# EAGLE library part DW01-A (library custom_library)
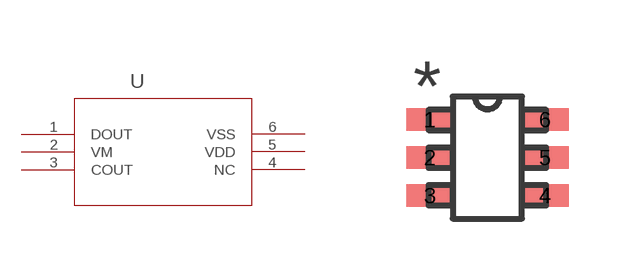
[diagram p5: symbol with the pads of SOT23-6_1P7X3P02-0P95_SFE-M; footprint SOT23-6_1P7X3P02-0P95_SFE-M]

Designator prefix U

## DW01-ASOT23-6 (COPYRIGHT: Copyright (C) 2025 Ultra Librarian. All rights reserved.; MANUFACTURER_PART_NUMBER: DW01-A; MFR_NAME: Shenzhen Fuman Elec; TYPE: Power Management)  [SOT23-6_1P7X3P02-0P95_SFE-M]
1  DOUT  out
2  VM  in
3  COUT  out
4  NC  nc
5  VDD  pwr
6  VSS  pas

## Footprint SOT23-6_1P7X3P02-0P95_SFE-M (pad centres in mm)
smd 1.181 x 0.559: 1 -1.441,0.95; 2 -1.441,0; 3 -1.441,-0.95; 4 1.441,-0.95; 5 1.441,0; 6 1.441,0.95